# Altium footprint library boxer_ic.PcbLib: 38 footprints (part 1 of 3)
Each footprint in its own frame and in the unit in brackets; x right, y up, seen from the top. Pads: shape width x height; smd on the part's side, far side on the other; paste and mask are expansions set on the pad; w line width, h text height; cw(c..) or ccw(c..) is an arc to the next point about the centre after c.
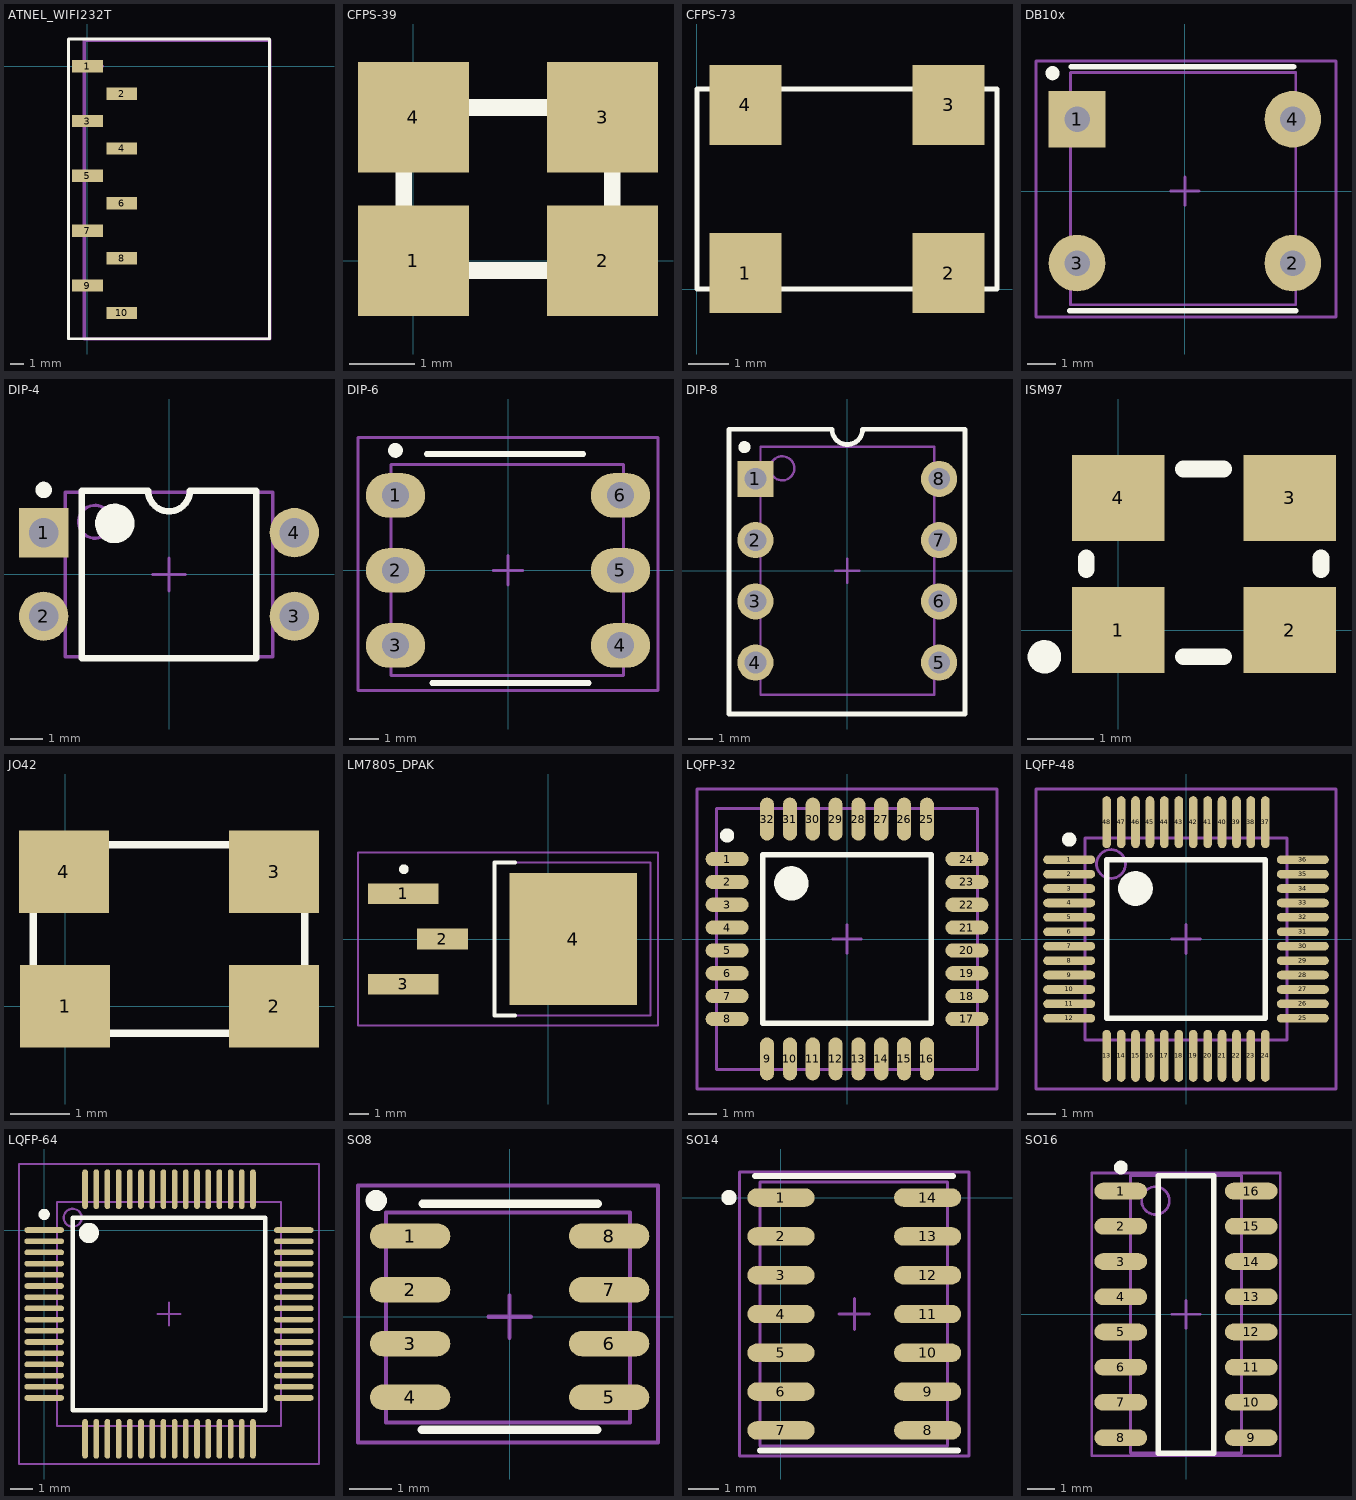
[diagram p0: the footprints below, top view; thin cyan lines are the x and y axes]

## ATNEL_WIFI232T [mm]
height 6
pads (10):
  rect 2.25x0.9 smd: 1(0,0) 2(2.515,-2) 3(0,-4) 4(2.515,-6) 5(0,-8) 6(2.515,-10) 7(0,-12) 8(2.515,-14) 9(0,-16) 10(2.515,-18)
Top Overlay:
  lines w0.2: -1.376,-19.888 -1.376,1.981 13.28,1.981 13.28,-19.888 -1.376,-19.888
Mechanical 13:
  lines w0.2: -0.212,0 1.118,0
  lines w0.254: -0.212,-16.002 -0.212,-19.9 ; -0.212,-19.9 -0.212,1.9 13.288,1.9 13.288,-19.9 -0.212,-19.9
3D body "mill-max-830-10-010-30-001000.STEP": height 8.61, standoff 0.2, extent -1.009,-18.928 3.429,1.072

## CFPS-39 [mm]
pads (4):
  rect 1.7x1.7 smd: 1(0,0) 2(2.9,0) 3(2.9,2.2) 4(0,2.2)
Top Overlay:
  circle w0.254: c-0.549,-0.513 r0.127
  lines w0.254: -0.15,-0.15 3.05,-0.15 3.05,2.35 -0.15,2.35 -0.15,-0.15
3D body: height 1.75, standoff 0, extent -0.152,-0.152 3.048,2.362

## CFPS-73 [mm]
pads (4):
  rect 1.8x2 smd: 1(1.219,0.406) 2(6.299,0.406) 3(6.299,4.606) 4(1.219,4.606)
Top Overlay:
  lines w0.127: 0.009,0.006 7.509,0.006 7.509,5.006 0.009,5.006 0.009,0.006

## DB10x [mm]
height 5.46
pads (4):
  rect 2x2 hole 0.9: 1(-3.81,2.54)
  round 2 hole 0.9: 2(3.81,-2.54) 3(-3.81,-2.54) 4(3.81,2.54)
Top Overlay:
  circle w0.25: c-4.674,4.166 r0.125
  lines w0.2: -4.064,-4.216 3.912,-4.216 ; -4.013,4.394 -0.635,4.394 3.835,4.394
Mechanical 13:
  lines w0.1: -4.039,-4.013 3.912,-4.013 3.912,4.191 -4.039,4.191 -4.039,-4.013
  text ".Designator" at -3.958,4.563 h0.5
  text ".Value" at -0.965,-0.178 h0.5
Mechanical 15:
  lines w0.1: -0.5,0 0.5,0 ; 0,-0.5 0,0.5 ; -5.258,-4.445 -5.258,4.597 5.334,4.597 5.334,-4.445 -5.258,-4.445
3D body "User Library-Silicon Bridge Rectifiers DF01.step": height 3.35, standoff -3.46, extent -4.008,-3.998 3.912,4.202

## DIP-4 [mm] "DIP; 4 Leads; Row Spacing 7.62 mm; Pitch 2.54 mm"
height 5.6
pads (4):
  rect 1.5x1.5 hole 0.9: 1(-3.81,1.27)
  round 1.5 hole 0.9: 2(-3.81,-1.27) 3(3.81,-1.27) 4(3.81,1.27)
Top Overlay:
  circle w0.6: c-1.65,1.55 r0.3
  circle w0.25: c-3.81,2.57 r0.125
  lines w0.2: -2.65,-2.55 2.65,-2.55 2.65,2.55 0.635,2.55 cw(c0,2.55) -0.635,2.55 -2.65,2.55 -2.65,-2.55
Mechanical 13:
  circle w0.1: c-2.25,1.6 r0.5
  lines w0.1: -3.15,-2.5 3.15,-2.5 3.15,2.5 -3.15,2.5 -3.15,-2.5
Mechanical 15:
  lines w0.1: -0.5,0 0.5,0 ; 0,-0.5 0,0.5
3D body "CircuitWorks-DIP4.step": height 4.31, standoff -3.28, extent -4,-2.769 4,2.771

## DIP-6 [mm] "DIP; 6 Leads; Row Spacing 7.62 mm; Pitch 2.54 mm"
height 5.46
pads (6):
  oval 2x1.5 hole 0.9: 1(-3.81,2.54) 2(-3.81,0) 3(-3.81,-2.54) 4(3.81,-2.54) 5(3.81,0) 6(3.81,2.54)
Top Overlay:
  circle w0.25: c-3.81,4.064 r0.125
  lines w0.2: -2.752,3.937 0.533,3.937 2.548,3.937 ; -2.565,-3.81 2.735,-3.81
Mechanical 13:
  lines w0.1: -3.962,-3.556 3.912,-3.556 3.912,3.581 -3.962,3.581 -3.962,-3.556
  text ".Designator" at -4.027,3.883 h0.5
  text ".Value" at -0.94,-0.178 h0.5
Mechanical 15:
  lines w0.1: -0.5,0 0.5,0 ; 0,-0.5 0,0.5 ; -5.08,-4.064 -5.08,4.496 5.08,4.496 5.08,-4.064 -5.08,-4.064
3D body "User Library-DIP6-White.STEP": height 4.4, standoff -2.9, extent -3.96,-3.531 3.91,3.589

## DIP-8 [mm] "DIP; 8 Leads; Row Spacing 7.62 mm; Pitch 2.54 mm"
height 5.08
pads (8):
  rect 1.5x1.5 hole 0.9: 1(-3.81,3.81)
  round 1.5 hole 0.9: 2(-3.81,1.27) 3(-3.81,-1.27) 4(-3.81,-3.81) 5(3.81,-3.81) 6(3.81,-1.27) 7(3.81,1.27) 8(3.81,3.81)
Top Overlay:
  circle w0.25: c-4.267,5.131 r0.125
  lines w0.2: -4.902,-5.944 -4.902,5.867 -0.635,5.867 ccw(c0,5.867) 0.635,5.867 4.877,5.867 4.877,-5.944 -4.902,-5.944
Mechanical 13:
  circle w0.1: c-2.7,4.25 r0.5
  lines w0.1: -3.6,-5.15 -3.6,5.15 3.6,5.15 3.6,-5.15 -3.6,-5.15
Mechanical 15:
  lines w0.1: -0.5,0 0.5,0 ; 0,-0.5 0,0.5
3D body "CircuitWorks-DIP8.step": height 4.19, standoff -2.67, extent -3.912,-5.715 3.962,5.715

## ISM97 [mm]
pads (4):
  rect 1.4x1.3 smd: 1(0,0) 2(2.6,0) 3(2.6,2) 4(0,2)
Top Overlay:
  circle w0.254: c-1.118,-0.406 r0.127
  lines w0.254: -0.483,0.914 -0.483,1.092 ; 0.991,-0.406 1.6,-0.406 ; 0.991,2.438 1.6,2.438 ; 3.073,0.914 3.073,1.092
3D body "User Library-SG310.step": height 1.05, standoff 0, extent -0.305,-0.239 2.895,2.261

## JO42 [mil]
pads (4):
  rect 60x55 smd: 1(0,0) 2(139.3,0) 3(139.3,89.72) 4(-0.79,89.72)
Top Overlay:
  lines w5: -21.24,-18.11 159.86,-18.11 159.86,107.88 -21.24,107.88 -21.24,-18.11

## LM7805_DPAK [mm] "Single-Ended SM Package, 3-Leads, Body 10.9x7.6mm, Pitch 2.3mm,"
height 2.7
pads (4):
  rect 3.6x1.05 smd: 1(-7.4,2.3) 3(-7.4,-2.3)
  rect 2.6x1.05 smd: 2(-5.4,0)
  rect 6.5x6.75 smd: 4(1.27,0)
Top Overlay:
  circle w0.25: c-7.364,3.556 r0.125
  lines w0.2: -1.7,-3.9 -2.75,-3.9 -2.75,3.9 -1.7,3.9
Mechanical 13:
  lines w0.1: -2.75,-3.9 5.207,-3.9 5.207,-3.101 5.207,-1.102 5.207,-0.127 5.207,0.127 5.207,1.102 5.207,3.9 -2.75,3.9 -2.75,-3.9
Mechanical 15:
  lines w0.1: -0.5,0 0.5,0 ; 0,-0.5 0,0.5 ; -9.7,-4.4 -9.7,4.4 5.588,4.4 5.588,-4.4 -9.7,-4.4

## LQFP-32 [mm] "Thin QFP, 32-Leads, Body 7x7mm, Pitch 0.8mm, IPC Medium Density"
height 1.6
pads (32):
  oval 1.5x0.5 smd: 1(-4.2,2.8) 2(-4.2,2) 3(-4.2,1.2) 4(-4.2,0.4) 5(-4.2,-0.4) 6(-4.2,-1.2) 7(-4.2,-2) 8(-4.2,-2.8) 17(4.2,-2.8) 18(4.2,-2) 19(4.2,-1.2) 20(4.2,-0.4) 21(4.2,0.4) 22(4.2,1.2) 23(4.2,2) 24(4.2,2.8)
  oval 0.5x1.5 smd: 9(-2.8,-4.2) 10(-2,-4.2) 11(-1.2,-4.2) 12(-0.4,-4.2) 13(0.4,-4.2) 14(1.2,-4.2) 15(2,-4.2) 16(2.8,-4.2) 25(2.8,4.2) 26(2,4.2) 27(1.2,4.2) 28(0.4,4.2) 29(-0.4,4.2) 30(-1.2,4.2) 31(-2,4.2) 32(-2.8,4.2)
Top Overlay:
  circle w0.6: c-1.95,1.95 r0.3
  circle w0.25: c-4.2,3.625 r0.125
  lines w0.2: -2.95,-2.95 2.95,-2.95 2.95,2.95 -2.95,2.95 -2.95,-2.95
Mechanical 13:
  lines w0.1: -4.572,-4.572 -4.572,4.572 4.572,4.572 4.572,-4.572 -4.572,-4.572
  text ".Value" at -1.016,-0.127 h0.5
  text ".Designator" at -1.93,4.902 h0.5
Mechanical 15:
  lines w0.1: -0.5,0 0.5,0 ; 0,-0.5 0,0.5 ; -5.253,-5.253 5.253,-5.253 5.253,5.253 -5.253,5.253 -5.253,-5.253
3D body "User Library-LQFP32-2.STEP": height 1.62, standoff -0.01, extent -4.572,-4.572 4.572,4.572

## LQFP-48 [mm] "Thin QFP, 48-Leads, Body 7x7mm, Pitch 0.5mm, IPC Medium Density"
height 1.6
pads (48):
  oval 1.8x0.3 smd: 1(-4.05,2.75) 2(-4.05,2.25) 3(-4.05,1.75) 4(-4.05,1.25) 5(-4.05,0.75) 6(-4.05,0.25) 7(-4.05,-0.25) 8(-4.05,-0.75) 9(-4.05,-1.25) 10(-4.05,-1.75) 11(-4.05,-2.25) 12(-4.05,-2.75) 25(4.05,-2.75) 26(4.05,-2.25) 27(4.05,-1.75) 28(4.05,-1.25) 29(4.05,-0.75) 30(4.05,-0.25) 31(4.05,0.25) 32(4.05,0.75) 33(4.05,1.25) 34(4.05,1.75) 35(4.05,2.25) 36(4.05,2.75)
  oval 0.3x1.8 smd: 13(-2.75,-4.05) 14(-2.25,-4.05) 15(-1.75,-4.05) 16(-1.25,-4.05) 17(-0.75,-4.05) 18(-0.25,-4.05) 19(0.25,-4.05) 20(0.75,-4.05) 21(1.25,-4.05) 22(1.75,-4.05) 23(2.25,-4.05) 24(2.75,-4.05) 37(2.75,4.05) 38(2.25,4.05) 39(1.75,4.05) 40(1.25,4.05) 41(0.75,4.05) 42(0.25,4.05) 43(-0.25,4.05) 44(-0.75,4.05) 45(-1.25,4.05) 46(-1.75,4.05) 47(-2.25,4.05) 48(-2.75,4.05)
Top Overlay:
  circle w0.25: c-4.05,3.45 r0.125
  circle w0.6: c-1.75,1.75 r0.3
  lines w0.2: -2.75,-2.75 -2.75,2.75 2.75,2.75 2.75,-2.75 -2.75,-2.75
Mechanical 13:
  circle w0.1: c-2.6,2.6 r0.5
  lines w0.1: -3.5,-3.5 -3.5,3.5 3.5,3.5 3.5,-3.5 -3.5,-3.5
  text ".Designator" at -1.753,4.013 h0.5
  text ".Value" at -1.016,-0.178 h0.5
Mechanical 15:
  lines w0.1: -0.5,0 0.5,0 ; 0,-0.5 0,0.5 ; -5.2,-5.2 -5.2,5.2 5.2,5.2 5.2,-5.2 -5.2,-5.2
3D body: height 1.6, standoff 0, extent -3.5,-3.5 3.5,3.5

## LQFP-64 [mm] "64-Pin LQFP 0.5 mm Pitch"
height 1.6
pads (64):
  oval 1.778x0.25 smd mask+0.076: 1(0,0) 2(0,-0.5) 3(0,-1) 4(0,-1.5) 5(0,-2) 6(0,-2.5) 7(0,-3) 8(0,-3.5) 9(0,-4) 10(0,-4.5) 11(0,-5) 12(0,-5.5) 13(0,-6) 14(0,-6.5) 15(0,-7) 16(0,-7.5) 33(11.15,-7.5) 34(11.15,-7) 35(11.15,-6.5) 36(11.15,-6) 37(11.15,-5.5) 38(11.15,-5) 39(11.15,-4.5) 40(11.15,-4) 41(11.15,-3.5) 42(11.15,-3) 43(11.15,-2.5) 44(11.15,-2) 45(11.15,-1.5) 46(11.15,-1) 47(11.15,-0.5) 48(11.15,0)
  oval 0.25x1.778 smd mask+0.076: 17(1.825,-9.325) 18(2.325,-9.325) 19(2.825,-9.325) 20(3.325,-9.325) 21(3.825,-9.325) 22(4.325,-9.325) 23(4.825,-9.325) 24(5.325,-9.325) 25(5.825,-9.325) 26(6.325,-9.325) 27(6.825,-9.325) 28(7.325,-9.325) 29(7.825,-9.325) 30(8.325,-9.325) 31(8.825,-9.325) 32(9.325,-9.325) 49(9.325,1.825) 50(8.825,1.825) 51(8.325,1.825) 52(7.825,1.825) 53(7.325,1.825) 54(6.825,1.825) 55(6.325,1.825) 56(5.825,1.825) 57(5.325,1.825) 58(4.825,1.825) 59(4.325,1.825) 60(3.825,1.825) 61(3.325,1.825) 62(2.825,1.825) 63(2.325,1.825) 64(1.825,1.825)
Top Overlay:
  circle w0.25: c0,0.7 r0.125
  circle w0.6: c1.995,-0.13 r0.15
  lines w0.2: 1.275,-8.05 1.275,0.55 9.875,0.55 9.875,-8.05 1.275,-8.05
Mechanical 13:
  circle w0.1: c1.275,0.55 r0.4
  lines w0.1: 0.575,-8.75 0.575,1.25 10.575,1.25 10.575,-8.75 0.575,-8.75
  text ".Designator" at 3.734,1.6 h0.5
  text ".Value" at 4.597,-4.039 h0.5
Mechanical 15:
  lines w0.1: 5.075,-3.75 6.075,-3.75 ; 5.575,-4.25 5.575,-3.25 ; -1.125,-10.45 -1.125,2.95 12.275,2.95 12.275,-10.45 -1.125,-10.45
3D body "User Library-lqpf64.step": height 1.5, standoff 0.02, extent -0.425,-9.75 11.575,2.25

## SO8 [mm]
pads (8):
  oval 1.9x0.6 smd: 1(-2.35,1.905) 2(-2.35,0.635) 3(-2.35,-0.635) 4(-2.35,-1.905) 5(2.35,-1.905) 6(2.35,-0.635) 7(2.35,0.635) 8(2.35,1.905)
Top Overlay:
  circle w0.25: c-3.15,2.743 r0.125
  lines w0.2: -2.07,-2.667 2.07,-2.667 ; -2.057,2.667 2.083,2.667
Mechanical 13:
  lines w0.1: -2.921,-2.5 2.845,-2.5 2.845,2.464 -2.921,2.464 -2.921,-2.5
  text ".Value" at -1.041,-0.229 h0.5
  text ".Designator" at -1.829,2.972 h0.5
Mechanical 15:
  lines w0.1: -0.5,0 0.5,0 ; 0,-0.5 0,0.5 ; -3.581,-2.972 3.505,-2.972 3.505,3.099 -3.581,3.099 -3.581,-2.972
3D body "CircuitWorks-SO-8.step": height 1.45, standoff 0, extent -2.908,-2.451 2.87,2.451

## SO14 [mm] "14-Pin Small Outline Integrated Circuit 1.27 mm Pitch, IPC Medium Density"
height 1.75
pads (14):
  oval 2.2x0.6 smd: 1(0,0) 2(0,-1.27) 3(0,-2.54) 4(0,-3.81) 5(0,-5.08) 6(0,-6.35) 7(0,-7.62) 8(4.8,-7.62) 9(4.8,-6.35) 10(4.8,-5.08) 11(4.8,-3.81) 12(4.8,-2.54) 13(4.8,-1.27) 14(4.8,0)
Top Overlay:
  circle w0.25: c-1.702,0 r0.125
  lines w0.2: -0.851,0.711 5.626,0.711 ; -0.686,-8.28 5.791,-8.28
Mechanical 13:
  lines w0.1: -0.681,-8.135 5.456,-8.135 5.456,0.515 -0.681,0.515 -0.681,-8.135
  text ".Designator" at 0.66,0.914 h0.5
  text ".Value" at 1.5,-3.962 h0.5
Mechanical 15:
  lines w0.1: 1.9,-3.81 2.9,-3.81 ; 2.4,-4.31 2.4,-3.31 ; -1.35,-8.46 6.15,-8.46 6.15,0.84 -1.35,0.84 -1.35,-8.46
3D body "User Library-so14-2.step": height 1.78, standoff 0.01, extent -0.681,-8.16 5.456,0.54

## SO16 [mm] "SOIC, 16-Leads, Body 9.9x3.9mm, Pitch 1.27mm, IPC High Density"
height 1.75
pads (16):
  oval 1.9x0.6 smd: 1(-2.35,4.445) 2(-2.35,3.175) 3(-2.35,1.905) 4(-2.35,0.635) 5(-2.35,-0.635) 6(-2.35,-1.905) 7(-2.35,-3.175) 8(-2.35,-4.445) 9(2.35,-4.445) 10(2.35,-3.175) 11(2.35,-1.905) 12(2.35,-0.635) 13(2.35,0.635) 14(2.35,1.905) 15(2.35,3.175) 16(2.35,4.445)
Top Overlay:
  circle w0.25: c-2.35,5.295 r0.125
  lines w0.2: -1,-5 -1,5 1,5 1,-5 -1,-5
Mechanical 13:
  circle w0.1: c-1.1,4.1 r0.5
  lines w0.1: -2,-5 -2,5 2,5 2,-5 -2,-5
  text ".Value" at -0.965,-0.203 h0.5
  text ".Designator" at -1.829,5.232 h0.5
Mechanical 15:
  lines w0.1: -0.5,0 0.5,0 ; 0,-0.5 0,0.5 ; -3.4,-5.1 -3.4,5.1 3.4,5.1 3.4,-5.1 -3.4,-5.1
3D body: height 1.75, standoff 0, extent -2,-5 2,5